# Altium footprint library WR-PHD_Pin Header.PcbLib: 232 footprints (part 15 of 15)
Each footprint in its own frame and in the unit in brackets; x right, y up, seen from the top. Pads: shape width x height; smd on the part's side, far side on the other; paste and mask are expansions set on the pad; w line width, h text height; cw(c..) or ccw(c..) is an arc to the next point about the centre after c.
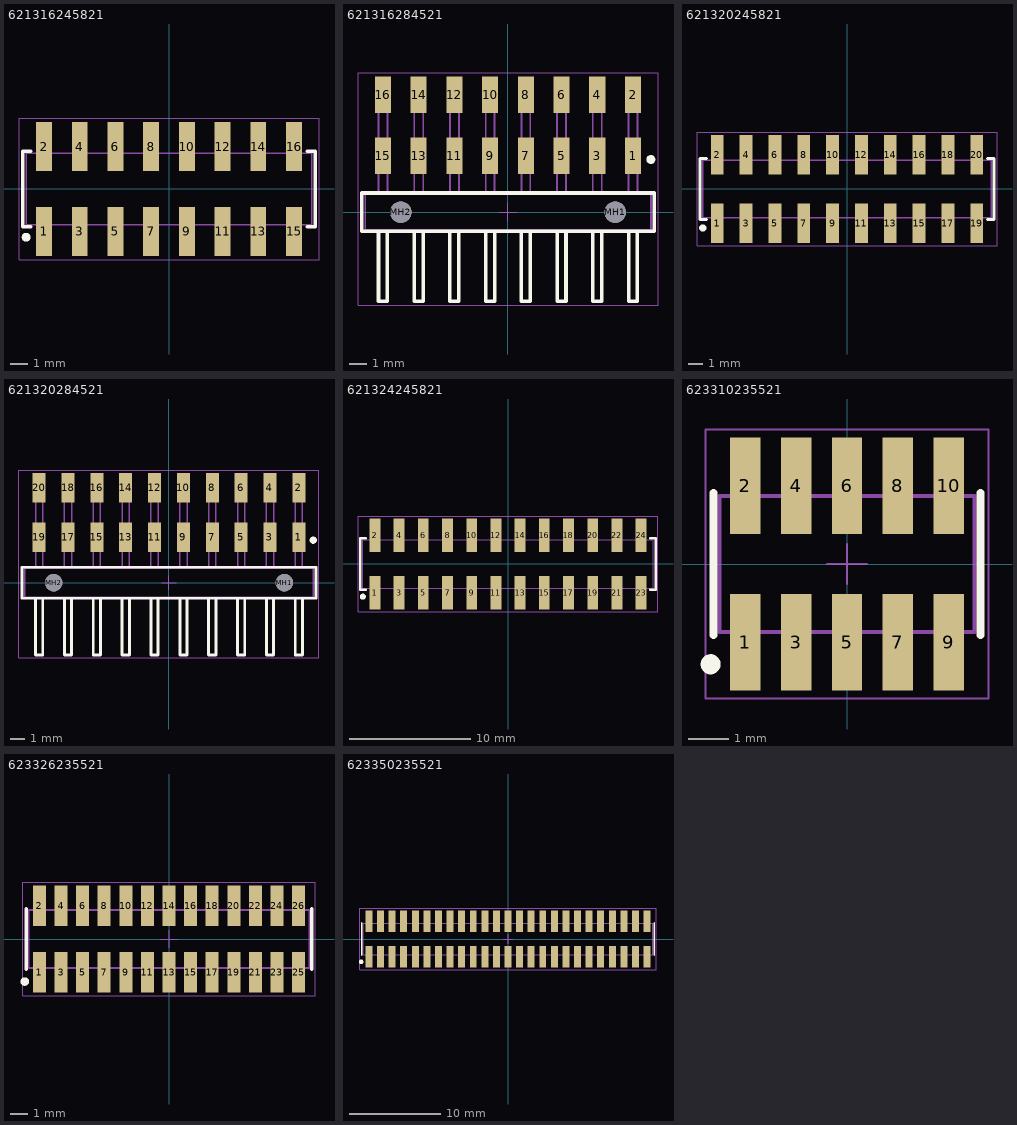
[diagram p14: the footprints below, top view; thin cyan lines are the x and y axes]

## 621316245821 [mm] "2.00 mm SMT Dual Pin Header Low Profile (Reel), 16p"
height 4.7
pads (16):
  rect 0.89x2.75 smd: 1(-7,-2.375) 2(-7,2.375) 3(-5,-2.375) 4(-5,2.375) 5(-3,-2.375) 6(-3,2.375) 7(-1,-2.375) 8(-1,2.375) 9(1,-2.375) 10(1,2.375) 11(3,-2.375) 12(3,2.375) 13(5,-2.375) 14(5,2.375) 15(7,-2.375) 16(7,2.375)
Top Overlay:
  circle w0.25: c-8,-2.7 r0.125
  lines w0.2: -7.75,-2.125 -8.2,-2.125 -8.2,2.125 -7.75,2.125 ; 7.75,-2.125 8.2,-2.125 8.2,2.125 7.75,2.125
Top Component Outline:
  lines w0.1: -7.25,-2 -7.25,-3.1 -6.75,-3.1 -6.75,-2 ; -7.25,2 -7.25,3.1 -6.75,3.1 -6.75,2 ; -5.25,-2 -5.25,-3.1 -4.75,-3.1 -4.75,-2 ; -5.25,2 -5.25,3.1 -4.75,3.1 -4.75,2 ; -3.25,-2 -3.25,-3.1 -2.75,-3.1 -2.75,-2 ; -3.25,2 -3.25,3.1 -2.75,3.1 -2.75,2 ; -1.25,-2 -1.25,-3.1 -0.75,-3.1 -0.75,-2 ; -1.25,2 -1.25,3.1 -0.75,3.1 -0.75,2 ; 0.75,-2 0.75,-3.1 1.25,-3.1 1.25,-2 ; 0.75,2 0.75,3.1 1.25,3.1 1.25,2 ; 2.75,-2 2.75,-3.1 3.25,-3.1 3.25,-2 ; 2.75,2 2.75,3.1 3.25,3.1 3.25,2 ; 4.75,-2 4.75,-3.1 5.25,-3.1 5.25,-2 ; 4.75,2 4.75,3.1 5.25,3.1 5.25,2 ; 6.75,-2 6.75,-3.1 7.25,-3.1 7.25,-2 ; 6.75,2 6.75,3.1 7.25,3.1 7.25,2 ; -8,-2 -8,2 8,2 8,-2 -8,-2
Top Courtyard:
  lines w0.05: -8.4,-3.95 -8.4,3.95 8.4,3.95 8.4,-3.95 -8.4,-3.95
3D body "621316245821.stp": height 4.7, standoff 0, extent -8,-3.1 8,3.1

## 621316284521 [mm] "Pin Header, pitch 2.00 mm, SMD, Angled, dual row, 16p"
height 5.5
pads (18):
  rect 0.9x2.03 smd: 1(7,3.16) 2(7,6.58) 3(5,3.16) 4(5,6.58) 5(3,3.16) 6(3,6.58) 7(1,3.16) 8(1,6.58) 9(-1,3.16) 10(-1,6.58) 11(-3,3.16) 12(-3,6.58) 13(-5,3.16) 14(-5,6.58) 15(-7,3.16) 16(-7,6.58)
  round 1.2 hole 1.2 unplated: MH1(6,0) MH2(-6,0)
Top Overlay:
  circle w0.25: c8,2.95 r0.125
  lines w0.2: -7.25,-1.075 -7.25,-5 -6.75,-5 -6.75,-1.075 ; -5.25,-1.075 -5.25,-5 -4.75,-5 -4.75,-1.075 ; -3.25,-1.075 -3.25,-5 -2.75,-5 -2.75,-1.075 ; -1.25,-1.075 -1.25,-5 -0.75,-5 -0.75,-1.075 ; 0.75,-1.075 0.75,-5 1.25,-5 1.25,-1.075 ; 2.75,-1.075 2.75,-5 3.25,-5 3.25,-1.075 ; 4.75,-1.075 4.75,-5 5.25,-5 5.25,-1.075 ; 6.75,-1.075 6.75,-5 7.25,-5 7.25,-1.075 ; -8.2,-1.075 8.2,-1.075 8.2,1.075 -8.2,1.075 -8.2,-1.075
Top Designator:
  text ".Designator" at -5.998,-0.4 h1.2
Top Component Outline:
  lines w0.1: -7.25,-1 -7.25,-5 -6.75,-5 -6.75,-1 ; -7.25,1 -7.25,7.22 -6.75,7.22 -6.75,1 ; -7.25,3.8 -6.75,3.8 ; -5.25,-1 -5.25,-5 -4.75,-5 -4.75,-1 ; -5.25,1 -5.25,7.22 -4.75,7.22 -4.75,1 ; -5.25,3.8 -4.75,3.8 ; -3.25,-1 -3.25,-5 -2.75,-5 -2.75,-1 ; -3.25,1 -3.25,7.22 -2.75,7.22 -2.75,1 ; -3.25,3.8 -2.75,3.8 ; -1.25,-1 -1.25,-5 -0.75,-5 -0.75,-1 ; -1.25,1 -1.25,7.22 -0.75,7.22 -0.75,1 ; -1.25,3.8 -0.75,3.8 ; 0.75,-1 0.75,-5 1.25,-5 1.25,-1 ; 0.75,1 0.75,7.22 1.25,7.22 1.25,1 ; 0.75,3.8 1.25,3.8 ; 2.75,-1 2.75,-5 3.25,-5 3.25,-1 ; 2.75,1 2.75,7.22 3.25,7.22 3.25,1 ; 2.75,3.8 3.25,3.8 ; 4.75,-1 4.75,-5 5.25,-5 5.25,-1 ; 4.75,1 4.75,7.22 5.25,7.22 5.25,1 ; 4.75,3.8 5.25,3.8 ; 6.75,-1 6.75,-5 7.25,-5 7.25,-1 ; 6.75,1 6.75,7.22 7.25,7.22 7.25,1 ; 6.75,3.8 7.25,3.8 ; -8,-1 -8,1 8,1 8,-1 -8,-1
Top Courtyard:
  lines w0.05: -8.4,-5.2 -8.4,7.795 8.4,7.795 8.4,-5.2 -8.4,-5.2
Top Component Center:
  lines w0.05: -0.5,0 0.5,0 ; 0,-0.5 0,0.5
3D body "621316284521.stp": height 4.02, standoff -0.98, extent -8,-5 8,7.22

## 621320245821 [mm] "2.00 mm SMT Dual Pin Header Low Profile (Reel), 20p"
height 4.7
pads (20):
  rect 0.89x2.75 smd: 1(-9,-2.375) 2(-9,2.375) 3(-7,-2.375) 4(-7,2.375) 5(-5,-2.375) 6(-5,2.375) 7(-3,-2.375) 8(-3,2.375) 9(-1,-2.375) 10(-1,2.375) 11(1,-2.375) 12(1,2.375) 13(3,-2.375) 14(3,2.375) 15(5,-2.375) 16(5,2.375) 17(7,-2.375) 18(7,2.375) 19(9,-2.375) 20(9,2.375)
Top Overlay:
  circle w0.25: c-10,-2.7 r0.125
  lines w0.2: -10.2,-2.125 -9.75,-2.125 ; -10.2,2.125 -9.75,2.125 ; -10.2,-2.125 -10.2,2.125 ; 9.75,-2.125 10.2,-2.125 ; 9.75,2.125 10.2,2.125 ; 10.2,-2.125 10.2,2.125
Top Component Outline:
  lines w0.1: -9.25,-2 -9.25,-3.1 -8.75,-3.1 -8.75,-2 ; -9.25,2 -9.25,3.1 -8.75,3.1 -8.75,2 ; -7.25,-2 -7.25,-3.1 -6.75,-3.1 -6.75,-2 ; -7.25,2 -7.25,3.1 -6.75,3.1 -6.75,2 ; -5.25,-2 -5.25,-3.1 -4.75,-3.1 -4.75,-2 ; -5.25,2 -5.25,3.1 -4.75,3.1 -4.75,2 ; -3.25,-2 -3.25,-3.1 -2.75,-3.1 -2.75,-2 ; -3.25,2 -3.25,3.1 -2.75,3.1 -2.75,2 ; -1.25,-2 -1.25,-3.1 -0.75,-3.1 -0.75,-2 ; -1.25,2 -1.25,3.1 -0.75,3.1 -0.75,2 ; 0.75,-2 0.75,-3.1 1.25,-3.1 1.25,-2 ; 0.75,2 0.75,3.1 1.25,3.1 1.25,2 ; 2.75,-2 2.75,-3.1 3.25,-3.1 3.25,-2 ; 2.75,2 2.75,3.1 3.25,3.1 3.25,2 ; 4.75,-2 4.75,-3.1 5.25,-3.1 5.25,-2 ; 4.75,2 4.75,3.1 5.25,3.1 5.25,2 ; 6.75,-2 6.75,-3.1 7.25,-3.1 7.25,-2 ; 6.75,2 6.75,3.1 7.25,3.1 7.25,2 ; 8.75,-2 8.75,-3.1 9.25,-3.1 9.25,-2 ; 8.75,2 8.75,3.1 9.25,3.1 9.25,2 ; -10,-2 -10,2 10,2 10,-2 -10,-2
Top Courtyard:
  lines w0.05: -10.4,-3.95 -10.4,3.95 10.4,3.95 10.4,-3.95 -10.4,-3.95
3D body "621320245821.stp": height 4.7, standoff 0, extent -10,-3.1 10,3.1

## 621320284521 [mm] "Pin Header, pitch 2.00 mm, SMD, Angled, dual row, 20p"
height 5.5
pads (22):
  rect 0.9x2.03 smd: 1(9,3.16) 2(9,6.58) 3(7,3.16) 4(7,6.58) 5(5,3.16) 6(5,6.58) 7(3,3.16) 8(3,6.58) 9(1,3.16) 10(1,6.58) 11(-1,3.16) 12(-1,6.58) 13(-3,3.16) 14(-3,6.58) 15(-5,3.16) 16(-5,6.58) 17(-7,3.16) 18(-7,6.58) 19(-9,3.16) 20(-9,6.58)
  round 1.2 hole 1.2 unplated: MH1(8,0) MH2(-8,0)
Top Overlay:
  circle w0.25: c10,2.95 r0.125
  lines w0.2: -9.25,-1.075 -9.25,-5 -8.75,-5 -8.75,-1.075 ; -7.25,-1.075 -7.25,-5 -6.75,-5 -6.75,-1.075 ; -5.25,-1.075 -5.25,-5 -4.75,-5 -4.75,-1.075 ; -3.25,-1.075 -3.25,-5 -2.75,-5 -2.75,-1.075 ; -1.25,-1.075 -1.25,-5 -0.75,-5 -0.75,-1.075 ; 0.75,-1.075 0.75,-5 1.25,-5 1.25,-1.075 ; 2.75,-1.075 2.75,-5 3.25,-5 3.25,-1.075 ; 4.75,-1.075 4.75,-5 5.25,-5 5.25,-1.075 ; 6.75,-1.075 6.75,-5 7.25,-5 7.25,-1.075 ; 8.75,-1.075 8.75,-5 9.25,-5 9.25,-1.075 ; -10.2,-1.075 -10.2,1.075 10.2,1.075 10.2,-1.075 -10.2,-1.075
Top Designator:
  text ".Designator" at -5.998,-0.4 h1.2
Top Component Outline:
  lines w0.1: -9.25,-1 -9.25,-5 -8.75,-5 -8.75,-1 ; -9.25,1 -9.25,7.22 -8.75,7.22 -8.75,1 ; -9.25,3.8 -8.75,3.8 ; -7.25,-1 -7.25,-5 -6.75,-5 -6.75,-1 ; -7.25,1 -7.25,7.22 -6.75,7.22 -6.75,1 ; -7.25,3.8 -6.75,3.8 ; -5.25,-1 -5.25,-5 -4.75,-5 -4.75,-1 ; -5.25,1 -5.25,7.22 -4.75,7.22 -4.75,1 ; -5.25,3.8 -4.75,3.8 ; -3.25,-1 -3.25,-5 -2.75,-5 -2.75,-1 ; -3.25,1 -3.25,7.22 -2.75,7.22 -2.75,1 ; -3.25,3.8 -2.75,3.8 ; -1.25,-1 -1.25,-5 -0.75,-5 -0.75,-1 ; -1.25,1 -1.25,7.22 -0.75,7.22 -0.75,1 ; -1.25,3.8 -0.75,3.8 ; 0.75,-1 0.75,-5 1.25,-5 1.25,-1 ; 0.75,1 0.75,7.22 1.25,7.22 1.25,1 ; 0.75,3.8 1.25,3.8 ; 2.75,-1 2.75,-5 3.25,-5 3.25,-1 ; 2.75,1 2.75,7.22 3.25,7.22 3.25,1 ; 2.75,3.8 3.25,3.8 ; 4.75,-1 4.75,-5 5.25,-5 5.25,-1 ; 4.75,1 4.75,7.22 5.25,7.22 5.25,1 ; 4.75,3.8 5.25,3.8 ; 6.75,-1 6.75,-5 7.25,-5 7.25,-1 ; 6.75,1 6.75,7.22 7.25,7.22 7.25,1 ; 6.75,3.8 7.25,3.8 ; 8.75,-1 8.75,-5 9.25,-5 9.25,-1 ; 8.75,1 8.75,7.22 9.25,7.22 9.25,1 ; 8.75,3.8 9.25,3.8 ; -10,-1 10,-1 10,1 -10,1 -10,-1
Top Courtyard:
  lines w0.05: -10.4,-5.2 10.4,-5.2 10.4,7.795 -10.4,7.795 -10.4,-5.2
Top Component Center:
  lines w0.05: -0.5,0 0.5,0 ; 0,-0.5 0,0.5
3D body "621320284521.stp": height 4.02, standoff -0.98, extent -10,-5 10,7.22

## 621324245821 [mm] "2.00 mm SMT Dual Pin Header Low Profile (Reel), 24p"
height 4.7
pads (24):
  rect 0.89x2.75 smd: 1(-11,-2.375) 2(-11,2.375) 3(-9,-2.375) 4(-9,2.375) 5(-7,-2.375) 6(-7,2.375) 7(-5,-2.375) 8(-5,2.375) 9(-3,-2.375) 10(-3,2.375) 11(-1,-2.375) 12(-1,2.375) 13(1,-2.375) 14(1,2.375) 15(3,-2.375) 16(3,2.375) 17(5,-2.375) 18(5,2.375) 19(7,-2.375) 20(7,2.375) 21(9,-2.375) 22(9,2.375) 23(11,-2.375) 24(11,2.375)
Top Overlay:
  circle w0.25: c-12,-2.7 r0.125
  lines w0.2: -11.75,-2.125 -12.2,-2.125 -12.2,2.125 -11.75,2.125 ; 11.75,-2.125 12.2,-2.125 12.2,2.125 11.75,2.125
Top Component Outline:
  lines w0.1: -11.25,-2 -11.25,-3.1 -10.75,-3.1 -10.75,-2 ; -11.25,2 -11.25,3.1 -10.75,3.1 -10.75,2 ; -9.25,-2 -9.25,-3.1 -8.75,-3.1 -8.75,-2 ; -9.25,2 -9.25,3.1 -8.75,3.1 -8.75,2 ; -7.25,-2 -7.25,-3.1 -6.75,-3.1 -6.75,-2 ; -7.25,2 -7.25,3.1 -6.75,3.1 -6.75,2 ; -5.25,-2 -5.25,-3.1 -4.75,-3.1 -4.75,-2 ; -5.25,2 -5.25,3.1 -4.75,3.1 -4.75,2 ; -3.25,-2 -3.25,-3.1 -2.75,-3.1 -2.75,-2 ; -3.25,2 -3.25,3.1 -2.75,3.1 -2.75,2 ; -1.25,-2 -1.25,-3.1 -0.75,-3.1 -0.75,-2 ; -1.25,2 -1.25,3.1 -0.75,3.1 -0.75,2 ; 0.75,-2 0.75,-3.1 1.25,-3.1 1.25,-2 ; 0.75,2 0.75,3.1 1.25,3.1 1.25,2 ; 2.75,-2 2.75,-3.1 3.25,-3.1 3.25,-2 ; 2.75,2 2.75,3.1 3.25,3.1 3.25,2 ; 4.75,-2 4.75,-3.1 5.25,-3.1 5.25,-2 ; 4.75,2 4.75,3.1 5.25,3.1 5.25,2 ; 6.75,-2 6.75,-3.1 7.25,-3.1 7.25,-2 ; 6.75,2 6.75,3.1 7.25,3.1 7.25,2 ; 8.75,-2 8.75,-3.1 9.25,-3.1 9.25,-2 ; 8.75,2 8.75,3.1 9.25,3.1 9.25,2 ; 10.75,-2 10.75,-3.1 11.25,-3.1 11.25,-2 ; 10.75,2 10.75,3.1 11.25,3.1 11.25,2 ; -12,-2 12,-2 12,2 -12,2 -12,-2
Top Courtyard:
  lines w0.05: -12.4,-3.95 12.4,-3.95 12.4,3.95 -12.4,3.95 -12.4,-3.95
3D body "621324245821.stp": height 4.7, standoff 0, extent -12,-3.1 12,3.1

## 623310235521 [mm] "Pin Header, pitch 1.27 mm, SMD, Vertical, dual row, 10p"
height 4.45
pads (10):
  rect 0.76x2.4 smd: 1(-2.54,-1.95) 2(-2.54,1.95) 3(-1.27,-1.95) 4(-1.27,1.95) 5(0,-1.95) 6(0,1.95) 7(1.27,-1.95) 8(1.27,1.95) 9(2.54,-1.95) 10(2.54,1.95)
Top Overlay:
  circle w0.25: c-3.4,-2.5 r0.125
  lines w0.2: -3.325,-1.775 -3.325,1.775 ; 3.325,-1.775 3.325,1.775
Top Designator:
  text ".Designator" at -7.498,-0.5 h1.5
Top Component Outline:
  lines w0.1: -2.74,-1.7 -2.74,-2.75 -2.34,-2.75 -2.34,-1.7 ; -2.74,1.7 -2.74,2.75 -2.34,2.75 -2.34,1.7 ; -1.47,-1.7 -1.47,-2.75 -1.07,-2.75 -1.07,-1.7 ; -1.47,1.7 -1.47,2.75 -1.07,2.75 -1.07,1.7 ; -0.2,-1.7 -0.2,-2.75 0.2,-2.75 0.2,-1.7 ; -0.2,1.7 -0.2,2.75 0.2,2.75 0.2,1.7 ; 1.07,-1.7 1.07,-2.75 1.47,-2.75 1.47,-1.7 ; 1.07,1.7 1.07,2.75 1.47,2.75 1.47,1.7 ; 2.34,-1.7 2.34,-2.75 2.74,-2.75 2.74,-1.7 ; 2.34,1.7 2.34,2.75 2.74,2.75 2.74,1.7 ; -3.175,-1.7 3.175,-1.7 3.175,1.7 -3.175,1.7 -3.175,-1.7
Top Courtyard:
  lines w0.05: -3.525,-3.35 -3.525,3.35 3.525,3.35 3.525,-3.35 -3.525,-3.35
Top Component Center:
  lines w0.05: -0.5,0 0.5,0 ; 0,-0.5 0,0.5
3D body "623310235521.stp": height 5.31, standoff 0, extent -3.175,-2.75 3.175,2.75

## 623326235521 [mm] "Pin Header, pitch 1.27 mm, SMD, Vertical, dual row, 26p"
height 4.45
pads (26):
  rect 0.76x2.4 smd: 1(-7.62,-1.95) 2(-7.62,1.95) 3(-6.35,-1.95) 4(-6.35,1.95) 5(-5.08,-1.95) 6(-5.08,1.95) 7(-3.81,-1.95) 8(-3.81,1.95) 9(-2.54,-1.95) 10(-2.54,1.95) 11(-1.27,-1.95) 12(-1.27,1.95) 13(0,-1.95) 14(0,1.95) 15(1.27,-1.95) 16(1.27,1.95) 17(2.54,-1.95) 18(2.54,1.95) 19(3.81,-1.95) 20(3.81,1.95) 21(5.08,-1.95) 22(5.08,1.95) 23(6.35,-1.95) 24(6.35,1.95) 25(7.62,-1.95) 26(7.62,1.95)
Top Overlay:
  circle w0.25: c-8.48,-2.5 r0.125
  lines w0.2: -8.405,-1.775 -8.405,1.775 ; 8.405,-1.775 8.405,1.775
Top Designator:
  text ".Designator" at -7.498,-0.5 h1.5
Top Component Outline:
  lines w0.1: -7.82,-1.7 -7.82,-2.75 -7.42,-2.75 -7.42,-1.7 ; -7.82,1.7 -7.82,2.75 -7.42,2.75 -7.42,1.7 ; -6.55,-1.7 -6.55,-2.75 -6.15,-2.75 -6.15,-1.7 ; -6.55,1.7 -6.55,2.75 -6.15,2.75 -6.15,1.7 ; -5.28,-1.7 -5.28,-2.75 -4.88,-2.75 -4.88,-1.7 ; -5.28,1.7 -5.28,2.75 -4.88,2.75 -4.88,1.7 ; -4.01,-1.7 -4.01,-2.75 -3.61,-2.75 -3.61,-1.7 ; -4.01,1.7 -4.01,2.75 -3.61,2.75 -3.61,1.7 ; -2.74,-1.7 -2.74,-2.75 -2.34,-2.75 -2.34,-1.7 ; -2.74,1.7 -2.74,2.75 -2.34,2.75 -2.34,1.7 ; -1.47,-1.7 -1.47,-2.75 -1.07,-2.75 -1.07,-1.7 ; -1.47,1.7 -1.47,2.75 -1.07,2.75 -1.07,1.7 ; -0.2,-1.7 -0.2,-2.75 0.2,-2.75 0.2,-1.7 ; -0.2,1.7 -0.2,2.75 0.2,2.75 0.2,1.7 ; 1.07,-1.7 1.07,-2.75 1.47,-2.75 1.47,-1.7 ; 1.07,1.7 1.07,2.75 1.47,2.75 1.47,1.7 ; 2.34,-1.7 2.34,-2.75 2.74,-2.75 2.74,-1.7 ; 2.34,1.7 2.34,2.75 2.74,2.75 2.74,1.7 ; 3.61,-1.7 3.61,-2.75 4.01,-2.75 4.01,-1.7 ; 3.61,1.7 3.61,2.75 4.01,2.75 4.01,1.7 ; 4.88,-1.7 4.88,-2.75 5.28,-2.75 5.28,-1.7 ; 4.88,1.7 4.88,2.75 5.28,2.75 5.28,1.7 ; 6.15,-1.7 6.15,-2.75 6.55,-2.75 6.55,-1.7 ; 6.15,1.7 6.15,2.75 6.55,2.75 6.55,1.7 ; 7.42,-1.7 7.42,-2.75 7.82,-2.75 7.82,-1.7 ; 7.42,1.7 7.42,2.75 7.82,2.75 7.82,1.7 ; -8.255,-1.7 -8.255,1.7 8.255,1.7 8.255,-1.7 -8.255,-1.7
Top Courtyard:
  lines w0.05: -8.605,-3.35 -8.605,3.35 8.605,3.35 8.605,-3.35 -8.605,-3.35
Top Component Center:
  lines w0.05: -0.5,0 0.5,0 ; 0,-0.5 0,0.5
3D body "623326235521.stp": height 5.31, standoff 0, extent -8.255,-2.75 8.255,2.75

## 623350235521 [mm] "Pin Header, pitch 1.27 mm, SMD, Vertical, dual row, 50p"
height 4.45
pads (50):
  rect 0.76x2.4 smd: 1(-15.24,-1.95) 2(-15.24,1.95) 3(-13.97,-1.95) 4(-13.97,1.95) 5(-12.7,-1.95) 6(-12.7,1.95) 7(-11.43,-1.95) 8(-11.43,1.95) 9(-10.16,-1.95) 10(-10.16,1.95) 11(-8.89,-1.95) 12(-8.89,1.95) 13(-7.62,-1.95) 14(-7.62,1.95) 15(-6.35,-1.95) 16(-6.35,1.95) 17(-5.08,-1.95) 18(-5.08,1.95) 19(-3.81,-1.95) 20(-3.81,1.95) 21(-2.54,-1.95) 22(-2.54,1.95) 23(-1.27,-1.95) 24(-1.27,1.95) 25(0,-1.95) 26(0,1.95) 27(1.27,-1.95) 28(1.27,1.95) 29(2.54,-1.95) 30(2.54,1.95) 31(3.81,-1.95) 32(3.81,1.95) 33(5.08,-1.95) 34(5.08,1.95) 35(6.35,-1.95) 36(6.35,1.95) 37(7.62,-1.95) 38(7.62,1.95) 39(8.89,-1.95) 40(8.89,1.95) 41(10.16,-1.95) 42(10.16,1.95) 43(11.43,-1.95) 44(11.43,1.95) 45(12.7,-1.95) 46(12.7,1.95) 47(13.97,-1.95) 48(13.97,1.95) 49(15.24,-1.95) 50(15.24,1.95)
Top Overlay:
  circle w0.25: c-16.1,-2.5 r0.125
  lines w0.2: -16.025,-1.775 -16.025,1.775 ; 16.025,-1.775 16.025,1.775
Top Designator:
  text ".Designator" at -7.498,-0.5 h1.5
Top Component Outline:
  drawing of 154 lines, arcs and shapes, not listed
Top Courtyard:
  lines w0.05: -16.225,-3.35 16.225,-3.35 16.225,3.35 -16.225,3.35 -16.225,-3.35
Top Component Center:
  lines w0.05: -0.5,0 0.5,0 ; 0,-0.5 0,0.5
3D body "623350235521.stp": height 5.31, standoff 0, extent -15.875,-2.75 15.875,2.75